# Altium footprint library rcl.PCBLIB: 164 footprints (part 8 of 11)
Each footprint in its own frame and in the unit in brackets; x right, y up, seen from the top. Pads: shape width x height; smd on the part's side, far side on the other; paste and mask are expansions set on the pad; w line width, h text height; cw(c..) or ccw(c..) is an arc to the next point about the centre after c.
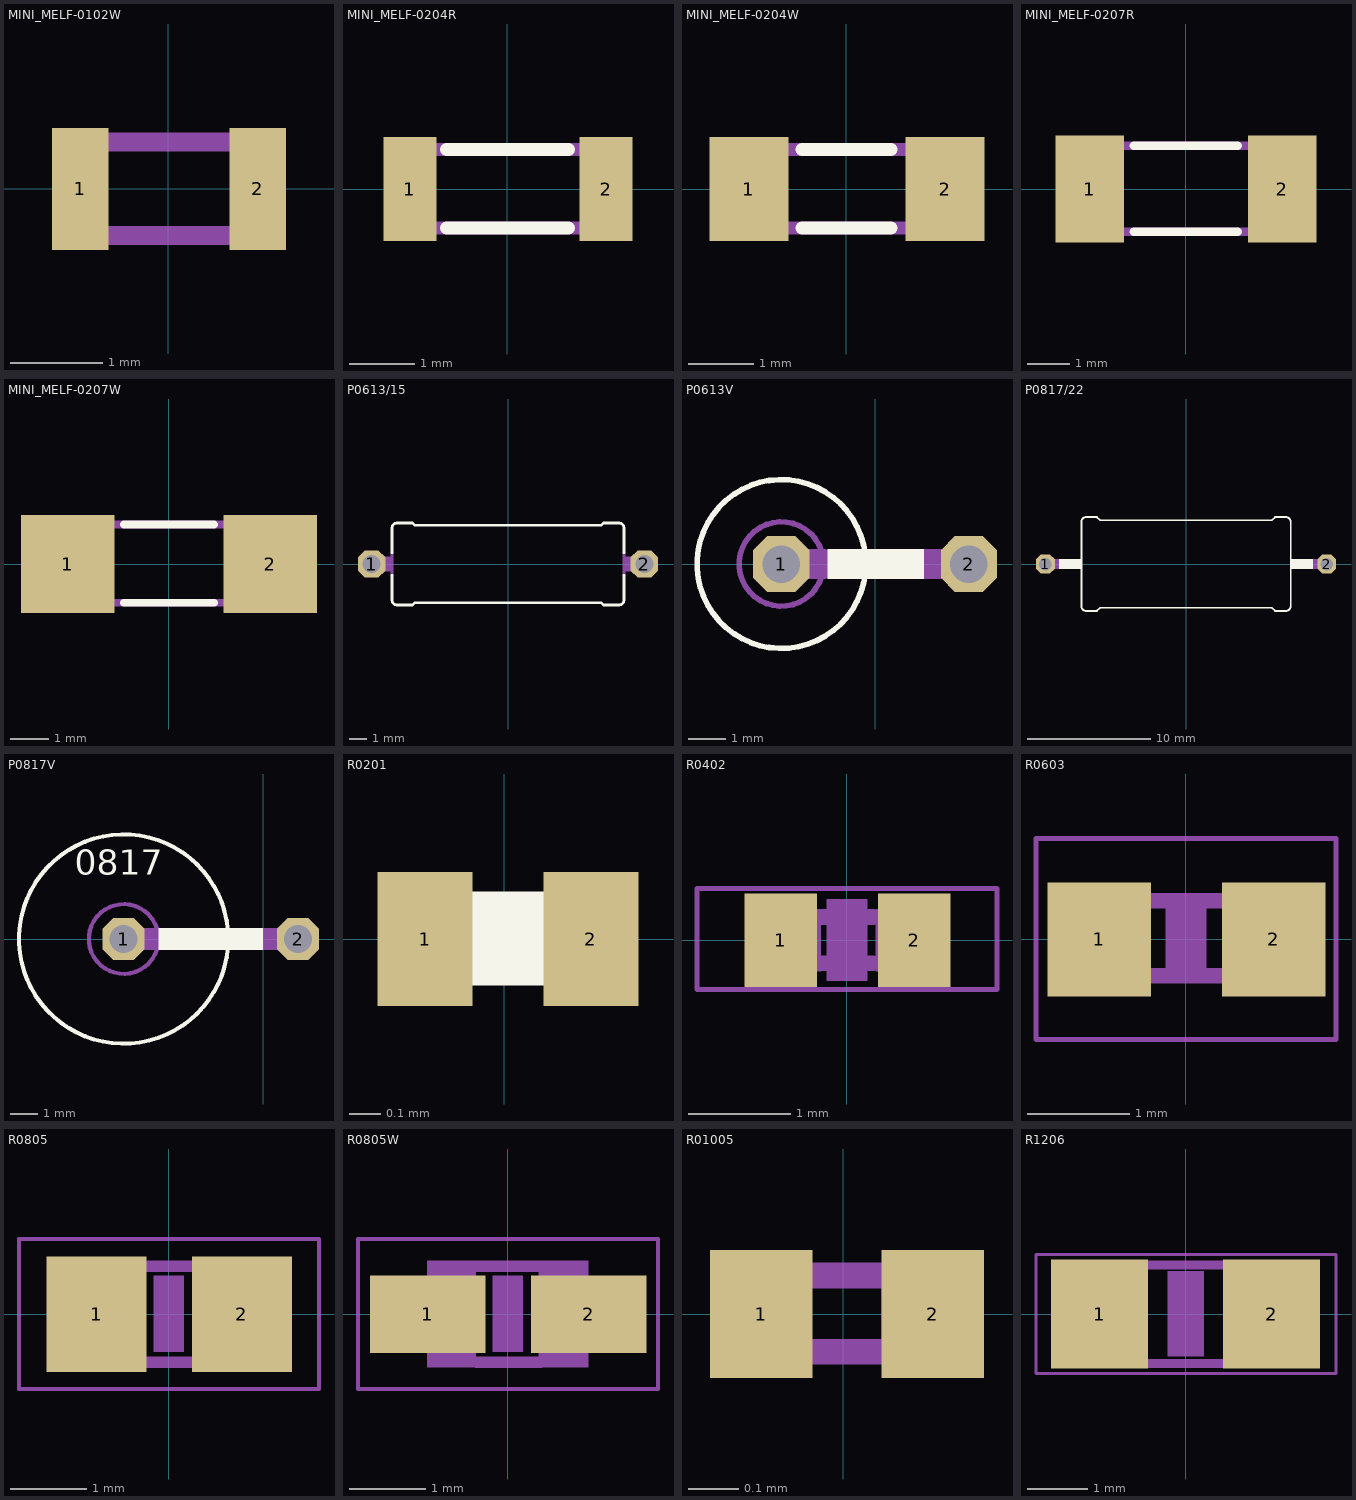
[diagram p7: the footprints below, top view; thin cyan lines are the x and y axes]

## MINI_MELF-0102W [mil]
pads (2):
  rect 24x52 smd: 1(-37.4,0) 2(38,0)
Mechanical 16:
  lines w8: -39.37,-19.68 40,-19.68 40,20 -39.37,20 -39.37,-19.68

## MINI_MELF-0204R [mil]
pads (2):
  rect 32x63 smd: 1(-59.06,0) 2(60,0)
Top Overlay:
  lines w8: -36.93,-23.62 37,-23.62 ; -36.93,24 37,24
Mechanical 16:
  lines w8: -66.93,-23.62 67,-23.62 67,24 -66.93,24 -66.93,-23.62

## MINI_MELF-0204W [mil]
pads (2):
  rect 48x63 smd: 1(-59.06,0) 2(60,0)
Top Overlay:
  lines w8: -26.93,-23.62 27,-23.62 ; -26.93,24 27,24
Mechanical 16:
  lines w8: -66.93,-23.62 67,-23.62 67,24 -66.93,24 -66.93,-23.62

## MINI_MELF-0207R [mil]
pads (2):
  rect 63x99 smd: 1(-88.58,0) 2(89,0)
Top Overlay:
  lines w8: -47.74,-39.37 48,-39.37 ; -47.74,40 48,40
Mechanical 16:
  lines w8: -110.24,-39.37 111,-39.37 111,40 -110.24,40 -110.24,-39.37

## MINI_MELF-0207W [mil]
pads (2):
  rect 95x99 smd: 1(-102.36,0) 2(103,0)
Top Overlay:
  lines w8: -45.24,-39.37 46,-39.37 ; -45.24,40 46,40
Mechanical 16:
  lines w8: -110.24,-39.37 111,-39.37 111,40 -110.24,40 -110.24,-39.37

## P0613/15 [mil]
pads (2):
  oct 60x60 hole 40: 1(-300,0) 2(300,0)
Top Overlay:
  lines w6: -255,-25 -255,-80 ccw(c-245,-80) -245,-90 -210,-90 -205,-85 205,-85 210,-90 245,-90 ccw(c245,-80) 255,-80 255,-25 ; -255,25 -255,80 cw(c-245,80) -245,90 -210,90 -205,85 205,85 210,90 245,90 cw(c245,80) 255,80 255,25
Mechanical 16:
  rectangle: -277,-16 -255,16
  rectangle: 255,-16 277,16
  lines w6: -255,-25 -255,25 ; 255,-25 255,25
  lines w32: -300,0 -275,0 ; 275,0 300,0

## P0613V [mil]
pads (2):
  oct 60x60 hole 40: 1(-100,0) 2(100,0)
Top Overlay:
  circle w6: c-100,0 r90
  rectangle: -51,-16 52,16
Mechanical 16:
  circle w6: c-100,0 r45
  lines w32: -100,0 -55,0 ; 55,0 100,0

## P0817/22 [mil]
pads (2):
  oct 60x60 hole 40: 1(-450,0) 2(450,0)
Top Overlay:
  rectangle: 335,-16 406,16
  rectangle: -406,-16 -335,16
  lines w6: -335,-135 -335,135 cw(c-320,135) -320,150 -285,150 -275,140 275,140 285,150 320,150 cw(c320,135) 335,135 335,-135 cw(c320,-135) 320,-150 285,-150 275,-140 -275,-140 -285,-150 -320,-150 cw(c-320,-135) -335,-135
Mechanical 16:
  lines w32: -450,0 -410,0 ; 410,0 450,0
  text "0817" at 260,-89 h77.5

## P0817V [mil]
pads (2):
  oct 60x60 hole 40: 1(-200,0) 2(50,0)
Top Overlay:
  circle w6: c-200,0 r150
  rectangle: -150,-16 0,16
  text "0817" at -270,80 h62
Mechanical 16:
  circle w6: c-200,0 r50
  lines w32: -200,0 -150,0 ; 0,0 50,0

## R0201 [mil]
pads (2):
  rect 12x17 smd: 1(-10.04,0) 2(11,0)
Top Overlay:
  rectangle: -5.91,-5.91 6,6
Mechanical 16:
  rectangle: -11.81,-5.91 -5.91,6
  rectangle: 6,-5.91 12,6

## R0402 [mil]
pads (2):
  rect 28x36 smd: 1(-25.59,0) 2(26,0)
Mechanical 6:
  rectangle: -7.87,-15.75 8,16
Mechanical 16:
  rectangle: -21.81,-12 -10,12
  rectangle: 11,-12 22,12
  lines w6: -9.65,-8.82 10,-8.82 ; -9.65,9 10,9
Mech37:
  lines w2: -57.99,-19.02 58,-19.02 58,20 -57.99,20 -57.99,-19.02

## R0603 [mil]
pads (2):
  rect 40x44 smd: 1(-33.46,0) 2(34,0)
Mechanical 6:
  rectangle: -7.87,-15.75 8,16
Mechanical 16:
  rectangle: 17,-17 33,17
  rectangle: -33,-17 -17,17
  lines w6: -17.01,-14.02 18,-14.02 ; -17.01,15 18,15
Mech37:
  lines w2: -57.99,-38.7 58,-38.7 58,39 -57.99,39 -57.99,-38.7

## R0805 [mil]
pads (2):
  rect 52x60 smd: 1(-37.4,0) 2(38,0)
Mechanical 6:
  rectangle: -7.87,-19.69 8,20
Mechanical 16:
  rectangle: 16,-27.5 42,28
  rectangle: -42,-27.5 -16.41,28
  lines w6: -16.14,-25 17,-25 ; -16.14,25 17,25
Mech37:
  lines w2: -77.68,-38.7 78,-38.7 78,39 -77.68,39 -77.68,-38.7

## R0805W [mil]
pads (2):
  rect 60x40 smd: 1(-41.44,0) 2(42,0)
Mechanical 6:
  rectangle: -7.87,-19.69 8,20
Mechanical 16:
  rectangle: 16,-27.5 42,28
  rectangle: -42,-27.5 -16.41,28
  lines w6: -16.14,-25 17,-25 ; -16.14,25 17,25
Mech37:
  lines w2: -77.68,-38.7 78,-38.7 78,39 -77.68,39 -77.68,-38.7

## R01005 [mil]
pads (2):
  rect 8x10 smd: 1(-6.4,0) 2(7,0)
Mechanical 16:
  rectangle: -7.87,-3.94 -2.95,4
  rectangle: 3,-3.94 8,4
  rectangle: -5.91,2 6,4
  rectangle: -5.91,-3.94 6,-1.97

## R1206 [mil]
pads (2):
  rect 63x71 smd: 1(-55.98,0) 2(56,0)
Mechanical 6:
  rectangle: -11.81,-27.56 12,28
Mechanical 16:
  rectangle: -66.5,-34.5 -37.5,35
  rectangle: 38,-34.5 67,35
  lines w6: -38,-32 38,-32 ; -38,32 38,32
Mech37:
  lines w2: -97.36,-38.7 98,-38.7 98,39 -97.36,39 -97.36,-38.7